# Altium footprint library MEGA.PcbLib: 237 footprints (part 14 of 15)
Each footprint in its own frame and in the unit in brackets; x right, y up, seen from the top. Pads: shape width x height; smd on the part's side, far side on the other; paste and mask are expansions set on the pad; w line width, h text height; cw(c..) or ccw(c..) is an arc to the next point about the centre after c.
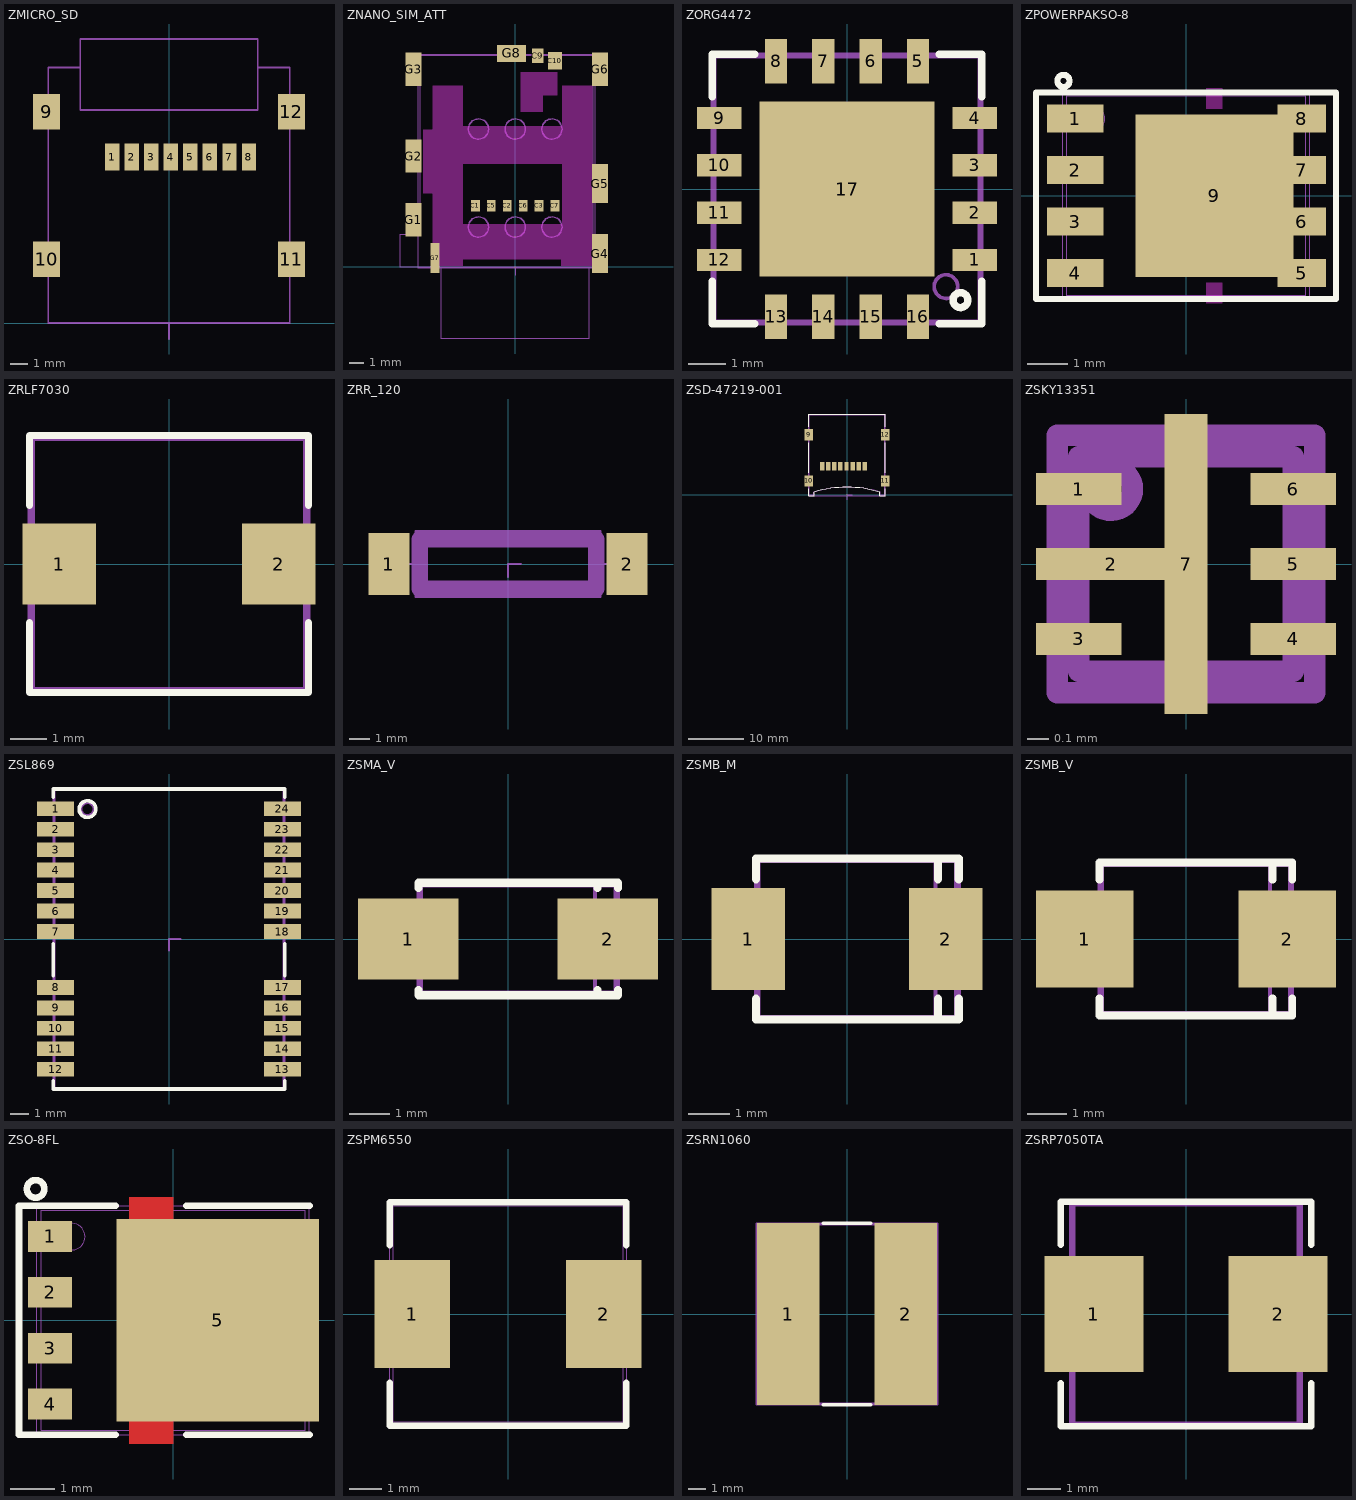
[diagram p13: the footprints below, top view; thin cyan lines are the x and y axes]

## ZMICRO_SD [mm]
pads (12):
  rect 0.8x1.5 smd paste-0.115 mask+0.1: 1(-3.2,9.35) 2(-2.1,9.35) 3(-1,9.35) 4(0.1,9.35) 5(1.2,9.35) 6(2.3,9.35) 7(3.4,9.35) 8(4.5,9.35)
  rect 1.5x2 smd paste-0.15 mask+0.1: 9(-6.9,11.9) 10(-6.9,3.6) 11(6.9,3.6) 12(6.9,11.9)
Mechanical 15:
  lines w0.1: -5,12 5,12 ; -5,12 -5,14.4 -6.8,14.4 -6.8,0 6.8,0 6.8,14.4 5,14.4 5,12 ; -5,12 5,12 ; -5,12 -5,16 5,16 5,12
Multi-Layer:
  text "Value" at -1.135,2.475 h0.75
Mechanical 19:
  lines w0.1: 0,-0.9 0,0 0.91,0

## ZNANO_SIM_ATT [mm]
pads (16):
  rect 0.6x0.8 smd paste-0.045 mask+0.05: C1(-2.75,4.205) C2(-0.55,4.205) C3(1.65,4.205) C5(-1.65,4.205) C6(0.55,4.205) C7(2.75,4.205)
  rect 0.8x1 smd paste-0.075 mask+0.05: C9(1.55,14.6)
  rect 1x1.2 smd paste-0.09 mask+0.05: C10(2.75,14.25)
  rect 1.1x2.3 smd paste-0.175 mask+0.05: G1(-7.05,3.25) G2(-7.05,7.65) G3(-7.05,13.65) G6(5.85,13.65)
  rect 1.1x2.7 smd paste-0.205 mask+0.05: G4(5.85,0.9) G5(5.85,5.75)
  rect 0.6x2.1 smd paste-0.16 mask+0.05: G7(-5.55,0.6)
  rect 2x1.2 smd paste-0.15 mask+0.05: G8(-0.25,14.75)
L1-Top Layer keep-out:
  region: -5.715,12.509 -3.619,12.509 -3.619,0.064 -5.715,0.064 -5.715,5.08 -6.35,5.08 -6.35,9.461 -5.715,9.461
  region: 3.238,12.509 5.334,12.509 5.334,0.064 3.175,0.064 3.175,0.508 -3.619,0.508 -3.619,2.921 3.238,2.921 3.238,7.112 -3.619,7.112 -3.619,9.716 3.238,9.716
  region: 0.381,13.462 2.921,13.462 2.921,11.874 1.905,11.874 1.905,10.731 0.381,10.731
Mechanical 15:
  circle w0.1: c0,2.74 r0.7
  circle w0.1: c2.54,2.74 r0.7
  circle w0.1: c-2.54,2.74 r0.7
  circle w0.1: c0,9.52 r0.7
  circle w0.1: c-2.54,9.52 r0.7
  circle w0.1: c2.54,9.52 r0.7
  lines w0.01: -5.1,0 -5.1,-5 5.1,-5 5.1,0 ; -8,0 -8,2.2 -6.6,2.2 -6.6,14.6 5.4,14.6 5.4,0 -8,0
Multi-Layer:
  text "Value" at -1.235,6.27 h0.75
Mechanical 19:
  lines w0.01: -0.6,0 0,0 0,-0.6
Mechanical 20:
  lines w0.01: -6.7,-0.1 5.5,-0.1 5.5,14.7 -6.7,14.7 -6.7,-0.1

## ZORG4472 [mm]
pads (17):
  rect 1.2x0.6 smd paste-0.09 mask+0.05: 1(3.429,-1.905) 2(3.429,-0.635) 3(3.429,0.635) 4(3.429,1.905) 9(-3.429,1.905) 10(-3.429,0.635) 11(-3.429,-0.635) 12(-3.429,-1.905)
  rect 0.6x1.2 smd paste-0.09 mask+0.05: 5(1.905,3.429) 6(0.635,3.429) 7(-0.635,3.429) 8(-1.905,3.429) 13(-1.905,-3.429) 14(-0.635,-3.429) 15(0.635,-3.429) 16(1.905,-3.429)
  rect 4.7x4.7 smd paste-0.35 mask+0.05: 17(0,0)
Top Overlay:
  circle w0.2: c3.048,-2.984 r0.2
  lines w0.2: -3.619,-2.476 -3.619,-3.619 -2.476,-3.619 ; -3.619,2.476 -3.619,3.619 -2.476,3.619 ; 2.476,-3.619 3.619,-3.619 3.619,-2.476 ; 2.476,3.619 3.619,3.619 3.619,2.476
Mechanical 15:
  circle w0.1: c2.658,-2.621 r0.318
  lines w0.1: -3.556,-3.556 3.556,-3.556 3.556,3.556 -3.556,3.556 -3.556,-3.556
Mechanical 19:
  lines w0.1: 0,-0.635 0,0 0.635,0 ; -3.619,-3.619 3.619,-3.619 3.619,3.619 -3.619,3.619 -3.619,-3.619

## ZPOWERPAKSO-8 [mm]
height 1.1
pads (9):
  rect 1.4x0.7 smd paste-0.105 mask+0.05: 1(-2.73,1.905) 2(-2.73,0.635) 3(-2.73,-0.635) 4(-2.73,-1.905)
  rect 1.2x0.7 smd paste-0.09 mask+0.05: 5(2.857,-1.905) 6(2.857,-0.635) 7(2.857,0.635) 8(2.857,1.905)
  rect 3.9x4 smd paste-0.3 mask+0.05: 9(0.7,0)
L1-Top Layer keep-out:
  region: 0.5,2.15 0.9,2.15 0.9,2.65 0.5,2.65
  region: 0.5,-2.65 0.9,-2.65 0.9,-2.15 0.5,-2.15
Top Overlay:
  circle w0.15: c-3.023,2.835 r0.15
  lines w0.15: -3.7,-2.55 3.7,-2.55 3.7,2.55 -3.7,2.55 -3.7,-2.55
Mechanical 15:
  circle w0.01: c-2.3,1.9 r0.3
  lines w0.01: -2.95,-2.45 2.95,-2.45 2.95,2.45 -2.95,2.45 -2.95,-2.45
Multi-Layer:
  text "Value" at -0.683,1.226 h0.6
Mechanical 19:
  lines w0.01: 0,-0.4 0,0 0.5,0
Mechanical 20:
  lines w0.01: -3.05,-2.55 3.05,-2.55 3.05,2.55 -3.05,2.55 -3.05,-2.55

## ZRLF7030 [mm]
pads (2):
  rect 2x2.2 smd paste-0.165 mask+0.05: 1(-2.984,0) 2(2.984,0)
Top Overlay:
  lines w0.2: -3.8,-1.6 -3.8,-3.5 3.8,-3.5 3.8,-1.6 ; -3.8,1.6 -3.8,3.5 3.8,3.5 3.8,1.6
Mechanical 15:
  lines w0.1: -3.7,-3.4 3.7,-3.4 3.7,3.4 -3.7,3.4 -3.7,-3.4
Multi-Layer:
  text "Value" at -1.235,-1.822 h0.75
Mechanical 20:
  lines w0.1: -3.8,-3.5 3.8,-3.5 3.8,3.5 -3.8,3.5 -3.8,-3.5

## ZRR_120 [mm]
pads (2):
  rect 2x3 smd paste-0.225 mask+0.05: 1(-5.8,0) 2(5.8,0)
Mechanical 15:
  lines w0.1: -6.7,0 -4.5,0 ; 4.5,0 6.7,0 ; -4.5,-1.6 4.5,-1.6 4.5,1.6 -4.5,1.6 -4.5,-1.6
Mechanical 16:
  lines w0.8: -4.3,-1.2 -4.3,1.2 4.3,1.2 4.3,-1.2 -4.3,-1.2
Mechanical 19:
  lines w0.1: 0,-0.635 0,0 0.635,0

## ZSD-47219-001 [mm]
pads (12):
  rect 0.8x1.5 smd paste-0.115 mask+0.05: 1(3.205,5.15) 2(2.105,5.15) 3(1.005,5.15) 4(-0.095,5.15) 5(-1.195,5.15) 6(-2.295,5.15) 7(-3.395,5.15) 8(-4.495,5.15)
  rect 1.5x2 smd paste-0.15 mask+0.05: 9(-6.875,10.85) 10(-6.875,2.55) 11(6.875,2.55) 12(6.875,10.85)
Top Overlay:
  lines w0.2: -6.9,1.1 -6.9,-0.1 -5.9,-0.1 -5.9,0.5 ; -6.9,4 -6.9,9.4 ; -6.9,12.3 -6.9,14.6 6.9,14.6 6.9,12.3 ; -5.883,0.505 cw(c0,-18.383) 5.916,0.495 ; 5.9,0.5 5.9,-0.1 6.9,-0.1 6.9,1.1 ; 6.9,4 6.9,9.4
Mechanical 15:
  lines w0.1: -6.013,0.496 cw(c0,-19.05) 5.979,0.506 ; -6,0.5 -6,0 -6.8,0 -6.8,14.5 6.8,14.5 6.8,0 6,0 6,0.5
Multi-Layer:
  text "Value" at -1.335,7.275 h0.75
Mechanical 19:
  lines w0.1: 0,-0.9 0,0 0.91,0
Mechanical 20:
  lines w0.1: -6.9,-0.1 -6.9,14.6 6.9,14.6 6.9,-0.1 -6.9,-0.1

## ZSKY13351 [mm]
height 1.75
pads (7):
  rect 0.4x0.15 smd paste-0.03 mask+0.05: 1(-0.5,0.35) 3(-0.5,-0.35) 4(0.5,-0.35) 5(0.5,0) 6(0.5,0.35)
  rect 0.7x0.15 smd paste-0.055 mask+0.05: 2(-0.35,0)
  rect 0.2x1.4 smd paste-0.105 mask+0.05: 7(0,0)
Mechanical 15:
  circle w0.1: c-0.35,0.35 r0.1
  lines w0.1: -0.5,-0.5 0.5,-0.5 0.5,0.5 -0.5,0.5 -0.5,-0.5
Mechanical 20:
  lines w0.1: -0.6,-0.6 0.6,-0.6 0.6,0.6 -0.6,0.6 -0.6,-0.6

## ZSL869 [mm]
pads (24):
  rect 2x0.8 smd paste-0.065 mask+0.05: 1(-6.096,7) 2(-6.096,5.9) 3(-6.096,4.8) 4(-6.096,3.7) 5(-6.096,2.6) 6(-6.096,1.5) 7(-6.096,0.4) 8(-6.096,-2.6) 9(-6.096,-3.7) 10(-6.096,-4.8) 11(-6.096,-5.9) 12(-6.096,-7) 13(6.096,-7) 14(6.096,-5.9) 15(6.096,-4.8) 16(6.096,-3.7) 17(6.096,-2.6) 18(6.096,0.4) 19(6.096,1.5) 20(6.096,2.6) 21(6.096,3.7) 22(6.096,4.8) 23(6.096,5.9) 24(6.096,7)
Top Overlay:
  circle w0.2: c-4.381,6.985 r0.445
  lines w0.2: -6.223,-7.62 -6.223,-8.064 6.223,-8.064 6.223,-7.62 ; -6.223,-1.968 -6.223,-0.254 ; -6.223,7.62 -6.223,8.064 6.223,8.064 6.223,7.62 ; 6.223,-1.968 6.223,-0.254
Mechanical 15:
  circle w0.1: c-4.381,6.985 r0.318
  lines w0.1: -6.159,-8 6.159,-8 6.159,8 -6.159,8 -6.159,-8
Multi-Layer:
  text "Value" at -0.918,-2.877 h0.75
Mechanical 19:
  lines w0.1: 0,-0.635 0,0 0.635,0
Mechanical 20:
  lines w0.1: -6.223,-8.064 6.223,-8.064 6.223,8.064 -6.223,8.064 -6.223,-8.064

## ZSMA_V [mm]
pads (2):
  rect 2.5x2 smd paste-0.19 mask+0.05: 1(-2.476,0) 2(2.476,0)
Top Overlay:
  lines w0.2: -2.222,-1.27 -2.222,-1.397 2.222,-1.397 ; -2.222,1.27 -2.222,1.397 2.222,1.397 ; 2.222,-1.27 2.222,-1.397 ; 2.222,1.27 2.222,1.397 ; 2.73,-1.27 2.73,-1.397 2.222,-1.397 ; 2.73,1.27 2.73,1.397 2.222,1.397
Mechanical 15:
  lines w0.1: 2.159,-1.333 2.159,1.333 ; 2.159,-1.333 -2.159,-1.333 -2.159,1.333 2.159,1.333 ; 2.159,-1.333 2.667,-1.333 2.667,1.333 2.159,1.333
Multi-Layer:
  text "Value" at -1.045,0.083 h0.75
Mechanical 20:
  lines w0.1: -2.222,-1.397 2.73,-1.397 2.73,1.397 -2.222,1.397 -2.222,-1.397

## ZSMB_M [mm]
pads (2):
  rect 1.8x2.5 smd paste-0.19 mask+0.05: 1(-2.413,0) 2(2.413,0)
Top Overlay:
  lines w0.2: -2.222,-1.46 -2.222,-1.968 2.73,-1.968 2.73,-1.46 ; -2.222,1.46 -2.222,1.968 2.73,1.968 2.73,1.46 ; 2.222,-1.968 2.222,-1.46 ; 2.222,1.46 2.222,1.968
Mechanical 15:
  lines w0.1: 2.159,-1.905 2.159,1.905 ; 2.159,-1.905 -2.159,-1.905 -2.159,1.905 2.159,1.905 ; 2.159,-1.905 2.667,-1.905 2.667,1.905 2.159,1.905
Multi-Layer:
  text "Value" at -1.235,-1.314 h0.75
Mechanical 20:
  lines w0.1: -2.222,-1.968 2.73,-1.968 2.73,1.968 -2.222,1.968 -2.222,-1.968

## ZSMB_V [mm]
pads (2):
  rect 2.5x2.5 smd paste-0.19 mask+0.05: 1(-2.603,0) 2(2.603,0)
Top Overlay:
  lines w0.2: -2.222,-1.524 -2.222,-1.968 2.73,-1.968 2.73,-1.524 ; -2.222,1.524 -2.222,1.968 2.73,1.968 2.73,1.524 ; 2.222,-1.968 2.222,-1.524 ; 2.222,1.524 2.222,1.968
Mechanical 15:
  lines w0.1: 2.159,-1.905 2.159,1.905 ; 2.159,-1.905 -2.159,-1.905 -2.159,1.905 2.159,1.905 ; 2.159,-1.905 2.667,-1.905 2.667,1.905 2.159,1.905
Multi-Layer:
  text "Value" at -1.235,-1.314 h0.75
Mechanical 20:
  lines w0.1: -2.222,-1.968 2.73,-1.968 2.73,1.968 -2.222,1.968 -2.222,-1.968

## ZSO-8FL [mm]
height 1.1
pads (5):
  rect 1x0.7 smd paste-0.075 mask+0.05: 1(-2.794,1.905) 2(-2.794,0.635) 3(-2.794,-0.635) 4(-2.794,-1.905)
  rect 4.6x4.6 smd paste-0.35 mask+0.05: 5(1.016,0)
L1-Top Layer:
  region: -1,2.8 0,2.8 0,-2.8 -1,-2.8
Top Overlay:
  circle w0.15: c-3.123,2.984 r0.2
  lines w0.15: -1.3,-2.6 -3.5,-2.6 -3.5,2.6 -1.3,2.6 ; 0.3,-2.6 3.1,-2.6 ; 0.3,2.6 3.1,2.6
Top Paste:
  region: -0.9,2.7 -0.1,2.7 -0.1,-2.7 -0.9,-2.7
Top Solder:
  region: -1.1,2.9 0.1,2.9 0.1,-2.9 -1.1,-2.9
Mechanical 15:
  circle w0.01: c-2.3,1.9 r0.3
  lines w0.01: -3,-2.5 -3,2.5 3,2.5 3,-2.5 -3,-2.5
Mechanical 19:
  lines w0.01: 0,-0.4 0,0 0.5,0
Mechanical 20:
  lines w0.01: -3.1,-2.6 -3.1,2.6 3.1,2.6 3.1,-2.6 -3.1,-2.6
3D body "NTMFS5C670NLT1G.STEP": height 1.1, standoff 0, extent -3.075,-2.575 3.075,2.575

## ZSPM6550 [mm]
pads (2):
  rect 2.3x3.3 smd paste-0.25 mask+0.05: 1(-2.921,0) 2(2.921,0)
Top Overlay:
  lines w0.2: -3.6,-2.1 -3.6,-3.4 3.6,-3.4 3.6,-2.1 ; -3.6,2.1 -3.6,3.4 3.6,3.4 3.6,2.1
Mechanical 15:
  lines w0.01: -3.5,-3.3 3.5,-3.3 3.5,3.3 -3.5,3.3 -3.5,-3.3
Multi-Layer:
  text "Value" at -1.235,-1.269 h0.75
Mechanical 20:
  lines w0.01: -3.6,-3.41 3.6,-3.41 3.6,3.41 -3.6,3.41 -3.6,-3.41

## ZSRN1060 [mm]
pads (2):
  rect 3.5x10.2 smd paste-0.765 mask+0.05: 1(-3.302,0) 2(3.302,0)
Top Overlay:
  lines w0.2: -1.333,-5.08 1.333,-5.08 ; -1.333,5.08 1.333,5.08
Mechanical 15:
  lines w0.1: -5.017,-3.018 ccw(c-3.032,-3.032) -3.015,-5.016 ; -5.016,-3.016 -5.016,3.016 ; -5.016,3.015 cw(c-3.032,3.032) -3.018,5.017 ; -3.016,-5.016 3.016,-5.016 ; -3.016,5.016 3.016,5.016 ; 3.015,5.016 cw(c3.032,3.032) 5.017,3.018 ; 3.018,-5.017 ccw(c3.032,-3.032) 5.016,-3.015 ; 5.016,-3.016 5.016,3.016
Mechanical 20:
  lines w0.1: -5.08,-5.08 5.08,-5.08 5.08,5.08 -5.08,5.08 -5.08,-5.08

## ZSRP7050TA [mm]
pads (2):
  rect 3x3.5 smd paste-0.265 mask+0.05: 1(-2.794,0) 2(2.794,0)
Top Overlay:
  lines w0.2: -3.8,-2.1 -3.8,-3.4 3.8,-3.4 3.8,-2.1 ; -3.8,2.1 -3.8,3.4 3.8,3.4 3.8,2.1
Mechanical 15:
  lines w0.1: -3.4,-3.3 -3.4,3.3 3.4,3.3 3.4,-3.3 -3.4,-3.3
Mechanical 20:
  lines w0.1: -3.5,-3.4 -3.5,3.4 3.5,3.4 3.5,-3.4 -3.5,-3.4
3D body: height 4.8, standoff 0, extent -3.65,-3.3 3.65,3.3